# Altium schematic symbol library lib.SchLib: 131 symbols (part 1 of 2)
Pins are listed as number, name and electrical type; pins without a type are passive.

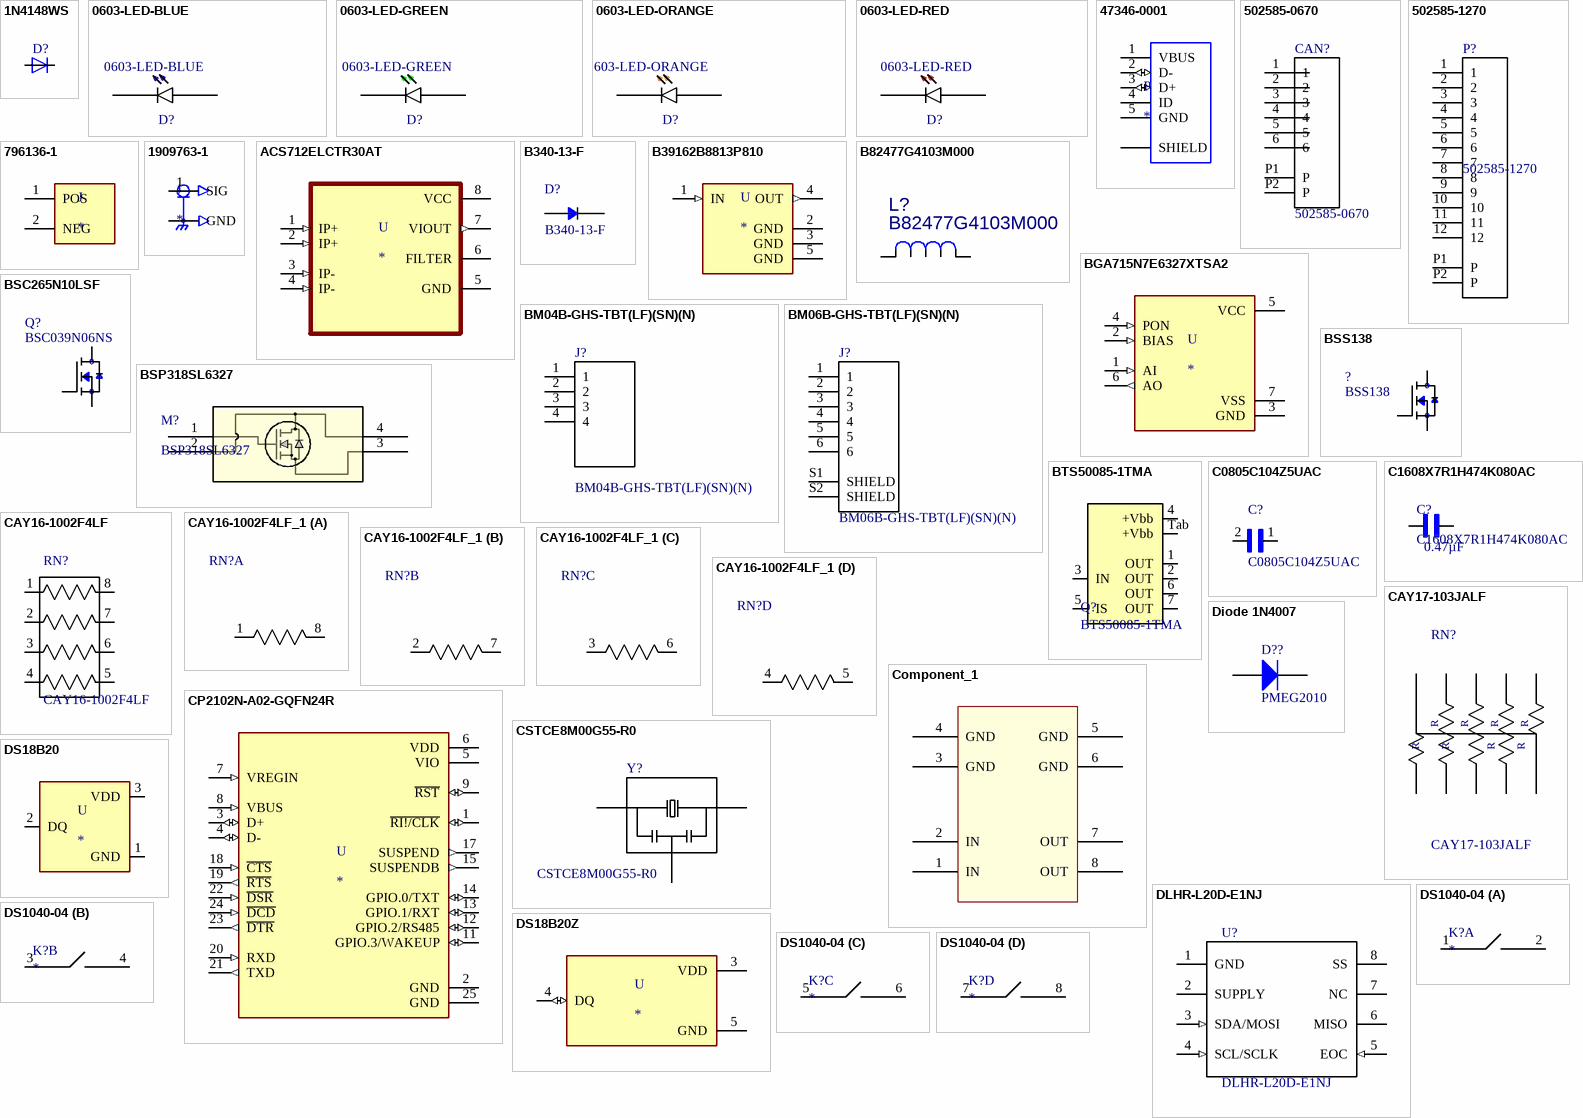
[diagram p0: symbols 1N4148WS to DS1040-04]

## 1N4148WS
designator D?  (value not drawn)
Diode Standard 75V 150mA Surface Mount SOD-323F; MF: ON Semiconductor; MP: 1N4148WS; SnapEDA_Link: https://www.snapeda.com/parts/1N4148WS/ON%20Semiconductor/view-part/9223/?ref=snap; Value: *; Digi-Key_Part_Number: 1N4148WSFSCT-ND; Digi-Key_Purchase_URL: https://www.digikey.com/product-detail/en/on-semiconductor/1N4148WS/1N4148WSFSCT-ND/1873821?utm_source=snapeda&utm_medium=aggregator&utm_campaign=symbol; Package: SOD-323 Fairchild Semiconductor; ChipDip_Link: https://www.chipdip.ru/product/1n4148ws-4; HelpURL: https://static.chipdip.ru/lib/008/DOC003008079.pdf
footprint SOD323 (SOD, 2-Leads, Body 1.25x2.50mm, IPC Medium Density)
pins: 1 A, 2 C

## 0603-LED-BLUE
designator D?
LED IrLED Chip LED 2-Pin SMD T/R; MP: LTST-S270TBKT or  LTST-C194TBKT or LTST-C191TBKT or  SML-D12D1WT86; Package: 0603 Lite-On; SnapEDA_Link: https://www.snapeda.com/parts/LTE-C1906R-14/Lite-On%20Inc./view-part/?ref=snap; Value: *; Type: SMD
footprint *LEDM1608X80_LTE-C1906R-14(Primary)
pins: A, C

## 0603-LED-GREEN
designator D?
Green 571nm LED Indication - Discrete 2V 0603 (1608 Metric); MP: LTST-C191KGKT or SML-D12D1WT86 or LTST-C190KGKT; Type: SMD; Package: 0603 Lite-On; SnapEDA_Link: https://www.snapeda.com/parts/LTST-C190KGKT/Lite-On%20Inc./view-part/?ref=search&t=0603%20LED%20GREEN; Value: *
footprint *LEDM1608X80_LTE-C1906R-14(Primary)
pins: A, C

## 0603-LED-ORANGE
designator D?
Orange 605nm LED Indication - Discrete 2.2V 0603 (1608 Metric); MP: SML-D12D1WT86 or LTST-C194KFKT; Type: SMD; Package: 0603 Lite-On; SnapEDA_Link: https://www.snapeda.com/parts/SML-D12D1WT86/Rohm/view-part/?ref=search&t=0603%20LED%20orange; Value: *
footprint *LEDM1608X80_LTE-C1906R-14(Primary)
pins: A, C

## 0603-LED-RED
designator D?
Red 620nm LED Indication - Discrete 2.2V 0603 (1608 Metric); MP: LTST-C194KRKT or SML-D12U1WT86; Type: SMD; Package: 0603 Lite-On; SnapEDA_Link: https://www.snapeda.com/parts/LTE-C1906R-14/Lite-On%20Inc./view-part/?ref=snap; Value: *
footprint *LEDM1608X80_LTE-C1906R-14(Primary)
pins: A, C

## 47346-0001
designator P
USB - micro B USB 2.0 Receptacle Connector 5 Position Surface Mount, Right Angle; MF: Molex; MP: 47346-0001; Value: *; Availability: Unavailable; SnapEDA_Link: https://www.snapeda.com/parts/47346-0001/Molex/view-part/53503/?ref=snap; Package: None; Price: None; ChipDip_Link: https://www.chipdip.ru/product/molex-47346-0001; HelpURL: https://static.chipdip.ru/lib/002/DOC001002744.pdf
footprint MOLEX_47346-0001
pins: 1 VBUS (power), 2 D- (io), 3 D+ (io), 4 ID, 5 GND (power), SH1 SHIELD, SH2 SHIELD, SH3 SHIELD, SH4 SHIELD, SH5 SHIELD, SH6 SHIELD

## 502585-0670
designator CAN?
1.50mm Pitch, CLIK-Mate PCB Receptacle, Single Row, Surface Mount, Right-Angle, Tin Plating, Positive Lock, 6 Circuits, Natural; MF: Molex; System: Connector; MP: 502585-0670; Package: None; SnapEDA_Link: https://www.snapeda.com/parts/502494-0670/Molex/view-part/?ref=snap; Value: *; Type: SMD
footprint MOLEX_502585-0670
pins: 1, 2, 3, 4, 5, 6, P1 P, P2 P

## 502585-1270
designator P?
1.50mm Pitch, CLIK-Mate PCB Receptacle, Single Row, Surface Mount, Right-Angle, Tin Plating, Positive Lock, 12 Circuits, Natural; MP: 502494-0670; MF: Molex; Availability: Unavailable; Package: None; SnapEDA_Link: https://www.snapeda.com/parts/502494-0670/Molex/view-part/?ref=snap; Price: None; Value: *
footprint MOLEX_5025851270
pins: 1, 2, 3, 4, 5, 6, 7, 8, 9, 10, 11, 12, P1 P, P2 P

## 796136-1
designator J
BATTERY HOLDER; No. of Batteries:1; Terminal Type:Surface Mount; For Use With:CR2032 Batteries; Accessory Type:Battery Holder; Battery Size Code:2032; Number_of_Positions: 2; MF: TE Connectivity; MP: 796136-1; Package: None; Value: *; TE_purchase_URL: https://www.te.com/usa-en/product-796136-1.html?te_bu=Cor&te_type=disp&te_campaign=seda_glo_cor-seda-global-disp-prtnr-fy19-seda-model-bom-cta_sma-317_1&elqCampaignId=32493; EU_RoHS_Compliance: Compliant; SnapEDA_Link: https://www.snapeda.com/parts/796136-1/TE%20Connectivity%20AMP%20Connectors/view-part/761452/?ref=snap; Availability: Unavailable; Price: None; ChipDip_Link: https://www.chipdip.ru/product1/8001790650; HelpURL: https://www.chipdip.ru/product1/8001790650
footprint TE_796136-1
pins: 1 POS, 2 NEG

## 1909763-1
designator J
Conn Coaxial PL 50Ohm Solder ST SMD Gold Over Nickel T/R; MP: 1909763-1; Number_of_Positions: 1; MF: TE Connectivity; Price: None; SnapEDA_Link: https://www.snapeda.com/parts/1909763-1/TE%20Connectivity%20AMP%20Connectors/view-part/473568/?ref=snap; Availability: Unavailable; Value: *; TE_purchase_URL: https://www.te.com/usa-en/product-1909763-1.html?te_bu=Cor&te_type=disp&te_campaign=seda_glo_cor-seda-global-disp-prtnr-fy19-seda-model-bom-cta_sma-317_1&elqCampaignId=32493; Package: None; ChipDip_Link: https://www.chipdip.ru/product1/8001775012; HelpURL: https://static6.arrow.com/aropdfconversion/4c7c0ae0d8af9cba0a94878fe69330a102c56b4b/eng_cd_1909763_b.pdf
footprint TE_1909763-1 (Footprint not found)
pins: 1 SIG, 2 GND, 3 GND

## ACS712ELCTR30AT
designator U
Current Sensor 30A 1 Channel Hall Effect, Open Loop Bidirectional 8-SOIC _0.154, 3.90mm Width_; MF: Allegro MicroSystems LLC; MP: ACS712ELCTR30AT; SnapEDA_Link: https://www.snapeda.com/parts/ACS712ELCTR30AT/Allegro%20MicroSystems%20LLC/view-part/1228165/?ref=snap; Value: *; Price: None; Availability: Unavailable; Package: SOIC-8 Allegro MicroSystems LLC; ChipDip_Link: https://www.chipdip.ru/product/acs712elctr-30a-t; HelpURL: https://static.chipdip.ru/lib/242/DOC000242949.pdf
footprint SOIC127P600X175-8N
pins: 1 IP+ (in), 2 IP+ (in), 3 IP- (in), 4 IP- (in), 5 GND (power), 6 FILTER, 7 VIOUT (out), 8 VCC (power)

## B340-13-F
designator D?
Schottky Diode, 3A, 40V, Smc; MF: Pericom; Package: DO-214AB-214 Pericom; MP: B340-13-F; Availability: Unavailable; SnapEDA_Link: https://www.snapeda.com/parts/B340-13-F/Pericom/view-part/?ref=snap; Price: None; Value: *
footprint *DIO_B340-13-F_B340-13-F(Primary)
pins: A, C

## B39162B8813P810
designator U
Frequency RF SAW Filter _Sound Acoustic Wave_ Bandwidth 5-SMD, No Lead; MF: Qualcomm _RF360; MP: B39162B8813P810; Package: SMD-5 EPCOS; Value: *; Availability: Unavailable; SnapEDA_Link: https://www.snapeda.com/parts/B39162B8813P810/Qualcomm%20%28RF360%20-%20A%20Qualcomm%20%26%20TDK%20Joint%20Venture%29/view-part/301261/?ref=snap; Price: None; ChipDip_Link: https://www.chipdip.ru/product1/8003584693; HelpURL: https://www.chipdip.ru/product1/8003584693
footprint FIL_B39162B9417K610
pins: 1 IN (in), 2 GND (power), 3 GND (power), 4 OUT (out), 5 GND (power)

## B82477G4103M000
designator L?
C: Copyright (C) 2015 Accelerated Designs. All rights reserved; Vendor: Epcos; Built_By: EMA_UL_Team; Manufacturer_Part_Number: B82477G4103M000; Value: B82477G4103M000
footprint IND_EPCOS
pins: 1, 2
1 alternate drawing of the same symbol

## BGA715N7E6327XTSA2
designator U
The BGA715N7 is a front-end low noise amplifier for Global Navigation Satellite Systems (GNSS) from 1550 MHz to 1615 MHz like GPS, GLONASS, Beidou, Galileo and others. The LNA provides 20 dB gain, 0.7 dB noise figure and high linearity performance in the application configuration. Current consumption is as low as 3.3 mA. The BGA715N7 is based upon Infineon Technologies B7HFM Silicon Germanium technology. It operates over a 1.5 V to 3.3 V supply range.; MP: BGA715N7E6327XTSA2; Package: TSNP-7-1 Infineon Technologies; Availability: Unavailable; SnapEDA_Link: https://www.snapeda.com/parts/BGA715N7E6327XTSA2/Infineon%20Technologies/view-part/521435/?ref=snap; DigiKey-Purchase-URL: https://snapeda.com/shop?store=DigiKey&id=521435; Value: *; MF: Infineon Technologies; Price: None; ChipDip_Link: https://www.chipdip.ru/product/bga-715n7-e6327-sige-ln-gnss-rf-amplifier; HelpURL: https://www.chipdip.ru/product/bga-715n7-e6327-sige-ln-gnss-rf-amplifier
footprint AMP_BGA715N7E6327XTSA2
pins: 1 AI (in), 2 BIAS (in), 3 GND (power), 4 PON (in), 5 VCC (power), 6 AO (out), 7 VSS (power)

## BM04B-GHS-TBT(LF)(SN)(N)
designator J?
Conn Shrouded Header HDR 4 POS 1.25mm Solder ST SMD Reel; MF: JST Sales; MP: BM04B-GHS-TBT_LF__SN__N_; SnapEDA_Link: https://www.snapeda.com/parts/BM04B-GHS-TBT%28LF%29%28SN%29%28N%29/JST%20Sales%20America%20Inc./view-part/?ref=snap; Availability: Unavailable; Package: None; Price: None; Value: *
footprint *JST_BM04B-GHS-TBT(LF)(SN)(N)_BM04B-GHS-TBT(LF)(SN)(N)(Primary)
footprint JST_BM04B-GHS-holes
pins: 1, 2, 3, 4

## BM06B-GHS-TBT(LF)(SN)(N)
designator J?
Conn Header Gh Top 6pos 1.25mm; MP: BM06B-GHS-TBT_LF__SN__N_; MF: JST Sales; Package: None; Availability: Unavailable; SnapEDA_Link: https://www.snapeda.com/parts/BM06B-GHS-TBT%28LF%29%28SN%29%28N%29/JST%20Sales%20America%20Inc./view-part/?ref=snap; Price: None; Value: *
footprint *JST_BM06B-GHS-TBT(LF)(SN)(N)_BM06B-GHS-TBT(LF)(SN)(N)(Primary)
pins: 1, 2, 3, 4, 5, 6, S1 SHIELD, S2 SHIELD

## BSC265N10LSF
designator Q?, comment BSC039N06NS
BSC265N10LSF G, MOSFET N-CHANNEL 100V 40A OPTIMOS TDSON8; SnapEDA_Link: https://www.snapeda.com/parts/BSC265N10LSFGATMA1/Samtec/view-part/?ref=search&t=BSC265N10LSF; Value: *; ChipDip_Link: https://www.chipdip.ru/product/bsc265n10lsf-g-mosfet-n-channel-100v-40a; HelpURL: https://static.chipdip.ru/lib/146/DOC004146491.pdf
footprint *TRANS_BSC039N06NS
pins: 1 S, 2 S, 3 S, 4 G, 5 D, 6 D, 7 D, 8 D, 9 D

## BSP318SL6327
designator M?
No Description Available; Vendor: Infineon; Built_By: EMA_Cory; SourceLibrary: Add_to_database_2021-03-11; Designer: EhsanShaghaei; Datasheet: https://www.mouser.com/datasheet/2/196/Infineon-BSP318S-DS-v02_04-en-522823.pdf; Manufacturer_Part_Number: BSP318SL6327; Copyright: Copyright (C) 2018 Accelerated Designs. All rights reserved; RefDes: RefDes; Type: DEV; ChipDip_Link: https://www.chipdip.ru/product0/8001781161
footprint PG-SOT223-4_INF-L
pins: 1, 2, 3, 4

## BSS138
designator ?
N-Channel 50V 220mA _Ta_ 360mW _Ta_ Surface Mount Die; MF: MICROSS/On Semiconductor; SnapEDA_Link: https://www.snapeda.com/parts/BSS138/MICROSS/On%20Semiconductor/view-part/2773844/?ref=snap; MP: BSS138; Availability: Unavailable; Price: None; Package: TO-236-3 Micross; Value: *
footprint *BSS138_BSS138(Primary)
pins: D, G, S

## BTS50085-1TMA
designator Q?
Parameter 1: https://www.infineon.com/dgdl/Infineon-BTS50085-1TMA-DS-v01_00-EN.pdf?fileId=5546d4625a888733015aa435bccd114b
footprint PG-TO263-7-8
pins: 1 OUT, 2 OUT, 3 IN, 4 +Vbb, 5 IS, 6 OUT, 7 OUT, Tab +Vbb

## C0805C104Z5UAC
designator C?
SnapEDA_Link: https://www.snapeda.com/parts/C0805C104Z5UAC/KEMET/view-part/1804770/?ref=snap; Value: *
footprint *CAPC2012X88N
pins: 1, 2

## C1608X7R1H474K080AC
designator C?  value 0.47µF
0.47µF ±10% 50V Ceramic Capacitor X7R 0603 _1608 Metric_; MF: TDK; Price: None; Package: 0603 (1608) TDK; SnapEDA_Link: https://www.snapeda.com/parts/C1608X7R1H474K080AC/TDK/view-part/360155/?ref=snap; Availability: Unavailable; MP: C1608X7R1H474K080AC; ChipDip_Link: https://www.chipdip.ru/product0/8576565346
footprint CAPC1608X90N
pins: 1, 2

## CAY16-1002F4LF
designator RN?
/ 10k Ohm В±1% 62.5mW Power Per Element Isolated Resistor Network/Array В±200ppm/В°C 1206 _3216 Metric_, Convex, Long Side Terminals /; MF: Bourns; MP: CAY16-1002F4LF; SnapEDA_Link: https://www.snapeda.com/parts/CAY16-1002F4LF/Bourns/view-part/289970/?ref=snap; Price: None; Package: 1206 Bourns; Availability: Unavailable; Value: *
footprint *RESCAXE80P320X160-8N
pins: 1, 2, 3, 4, 5, 6, 7, 8

## CAY16-1002F4LF_1
designator RN?, comment CAY16-1002F4LF  (value not drawn)
/ 10k Ohm В±1% 62.5mW Power Per Element Isolated Resistor Network/Array В±200ppm/В°C 1206 _3216 Metric_, Convex, Long Side Terminals /; MF: Bourns; MP: CAY16-1002F4LF; SnapEDA_Link: https://www.snapeda.com/parts/CAY16-1002F4LF/Bourns/view-part/289970/?ref=snap; Price: None; Package: 1206 Bourns; Availability: Unavailable; Value: *
footprint *RESCAXE80P320X160-8N
part A pins: 1, 8
part B pins: 2, 7
part C pins: 3, 6
part D pins: 4, 5

## CAY17-103JALF
designator RN?
/ 10k Ohm В±5% 62.5mW Power Per Element Bussed Resistor Network/Array В±250ppm/В°C 1206 _3216 Metric_, Convex, Long Side Terminals /; MF: Bourns; Package: 1206 Bourns; SnapEDA_Link: https://www.snapeda.com/parts/CAY17-103JALF/Bourns%20-%20J.W.%20Miller/view-part/342691/?ref=snap; Price: None; MP: CAY17-103JALF; Availability: Unavailable; Value: *
footprint *RESCAXS64P320X160X60-10N
pins: 1, 2, 3, 4, 5, 6, 7, 8, 9, 10
text: R

## Component_1
designator *  (value not drawn)
DC/DC
footprint DC/DC
pins: 1 IN, 2 IN, 3 GND, 4 GND, 5 GND, 6 GND, 7 OUT, 8 OUT

## CP2102N-A02-GQFN24R
designator U
USB Bridge, USB to UART USB 2.0 UART Interface 24-QFN _4x4_; MF: Silicon Labs; MP: CP2102N-A02-GQFN24R; Package: WFQFN-24 Silicon Labs; Price: None; Availability: Unavailable; SnapEDA_Link: https://www.snapeda.com/parts/CP2102N-A02-GQFN24R/Silicon%20Labs/view-part/3601234/?ref=snap; Value: *; ChipDip_Link: https://www.chipdip.ru/product/cp2102n-a02-gqfn24; HelpURL: http://www.farnell.com/datasheets/2786351.pdf
footprint QFN50P400X400X80-25N
pins: 1 ~{RI!/CLK} (io), 2 GND (power), 3 D+ (io), 4 D- (io), 5 VIO (power), 6 VDD (power), 7 VREGIN (in), 8 VBUS (in), 9 ~{RST} (io), 11 GPIO.3/WAKEUP (io), 12 GPIO.2/RS485 (io), 13 GPIO.1/RXT (io), 14 GPIO.0/TXT (io), 15 SUSPENDB (out), 17 SUSPEND (out), 18 ~{CTS} (in), 19 ~{RTS} (out), 20 RXD (in), 21 TXD (out), 22 ~{DSR} (in), 23 ~{DTR} (out), 24 ~{DCD} (in), 25 GND (power)

## CSTCE8M00G55-R0
designator Y?
Ceramic Resonator 8MHz ??0.5% _Tol_ ??0.2% _Stability_ 33pF 40Ohm 3-Pin CSMD T/R; MF: Murata; MP: CSTCE8M00G55-R0; Package: SMD-3 Murata; SnapEDA_Link: https://www.snapeda.com/parts/CSTCE8M00G55-R0/Murata%20Electronics%20North%20America/view-part/?ref=snap; Value: *; ChipDip_Link: https://www.chipdip.ru/product1/8001783721; HelpURL: https://www.murata.com/en-eu/api/pdfdownloadapi?cate=&partno=CSTCE8M00G55-R0; Type: SMD
footprint *OSC_CSTCE8M00G55-R0
pins: 1, 2 (power), 3

## Diode 1N4007
designator D??, comment PMEG2010
1 Amp General Purpose Rectifier; Published: 8-Jun-2000; LatestRevisionDate: 17-Jul-2002; LatestRevisionNote: Re-released for DXP Platform.; DatasheetVersion: 1998; PackageVersion: Aug-1999; PackageReference: DO-41; Publisher: Altium Limited; Code_JEDEC: DO-204-AL; ComponentLink1Description: Manufacturer Link; ComponentLink1URL: http://www.fairchildsemi.com/; ComponentLink2Description: Datasheet; ComponentLink2URL: http://www.fairchildsemi.com/ds/1N%2F1N4001.pdf
footprint DIO10.46-5.3x2.8 (Diode, Axial; Body 5.2 x 2.7 mm (LxDia. max), Lead Dia. 0.86 mm (max))
simulation model 1N4007 (DIODE)
signal-integrity model 1N4007
footprint SOD323 (SOD-323/SC-76; 2 Leads; Body 1.7 x 1.3 mm, (LxW))
pins: 1 A, 2 K

## DLHR-L20D-E1NJ
designator U?
SnapEDA_Link: https://www.snapeda.com/parts/DLLR-L10G-E1BD-C-NAV8/Amphenol%20All%20Sensors%20Corporation/view-part/?ref=search&t=DLHR; MP: DLHR-L20D-E1NJ; Availability: Unavailable; Price: None; Package: PowerSOIC-8 Texas Instruments; MF: DLHR-L20D-E1NJ; Value: *; ComponentLink1Description: Datasheet; ComponentLink1URL: https://www.allsensors.com/datasheets/DS-0350_Rev_C.pdf
footprint DSHR
pins: 1 GND (power), 2 SUPPLY (power), 3 SDA/MOSI (in), 4 SCL/SCLK (in), 5 EOC (in), 6 MISO (power), 7 NC (power), 8 SS (power)

## DS18B20
designator U
Temperature Sensor Digital, Local -55Â°C ~ 125Â°C 12 b TO-92-3; MF: Maxim Integrated; MP: DS18B20; Package: TO-92 Maxim Integrated; Value: *; Price: None; Availability: Unavailable; SnapEDA_Link: https://www.snapeda.com/parts/DS18B20/Maxim%20Integrated/view-part/1266091/?ref=snap
footprint TO-92-TO92127P495H2044-3
pins: 1 GND (power), 2 DQ (io), 3 VDD (power)

## DS18B20Z
designator U
Temperature Sensor Digital, Local -55Â°C ~ 125Â°C 12 b 8-SOIC; MP: DS18B20Z+; MF: Maxim Integrated; Availability: Unavailable; SnapEDA_Link: https://www.snapeda.com/parts/DS18B20Z%2B/Maxim%20Integrated/view-part/109391/?ref=snap; Value: *; Package: SOIC-8 Maxim; Price: None
footprint SOIC127P600X175-8N
pins: 3 VDD (power), 4 DQ (io), 5 GND (power)

## DS1040-04
designator K?
DS1040-04RN, DIP переключатель 4pin красный; ComponentLink1Description: Datasheet; ComponentLink1URL: https://static.chipdip.ru/lib/974/DOC000974669.pdf; ComponentLink2Description: Supplyer; ComponentLink2URL: https://www.chipdip.ru/product/ds1040-04rn
footprint DS1040-04
part A pins: 1 I1, 2 O1
part B pins: 3 I1, 4 O1
part C pins: 5 I1, 6 O1
part D pins: 7 I1, 8 O1

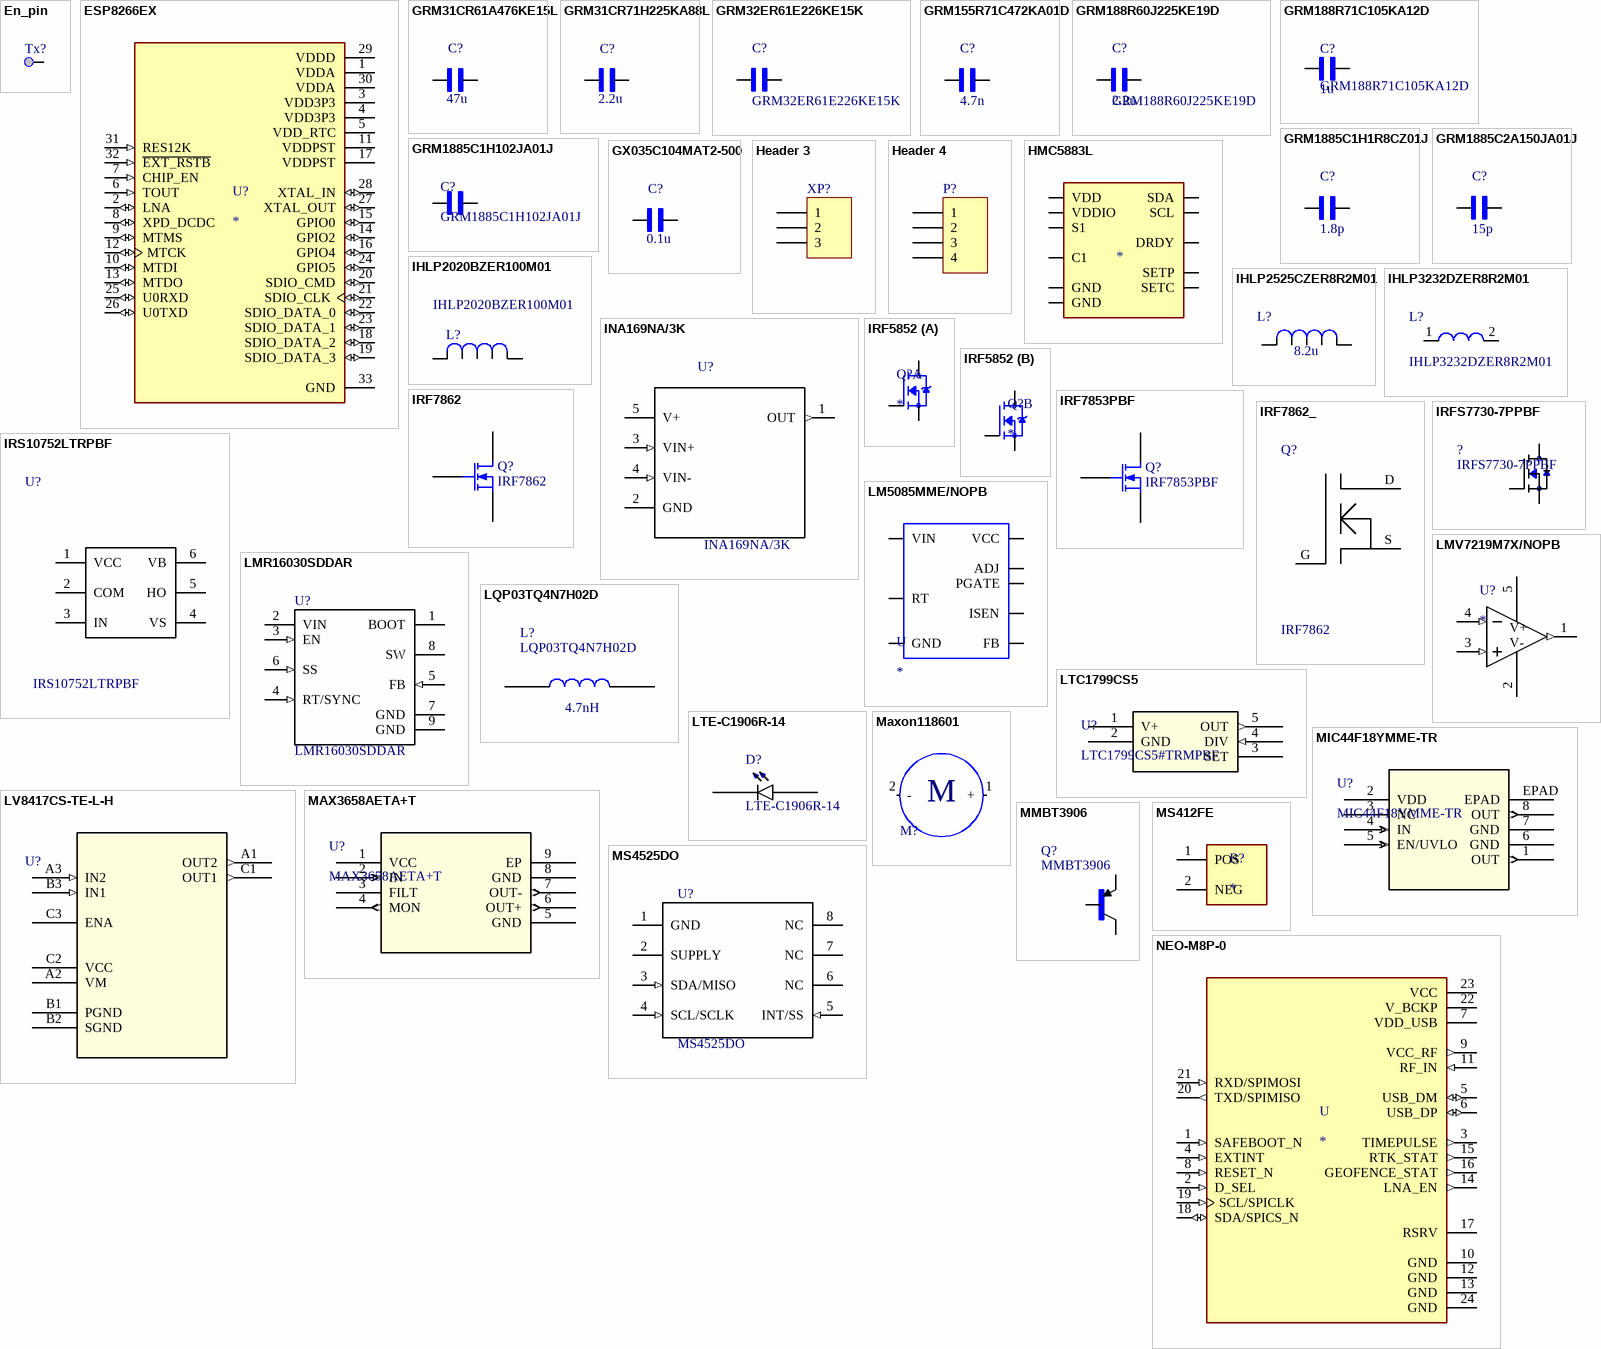
[diagram p1: symbols En_pin to NEO-M8P-0]

## En_pin
designator Tx?  (value not drawn)
footprint En_pin_TP
footprint EN_PIN_SMD (Footprint not found)
footprint EnPinSMD-mali
pins: 1

## ESP8266EX
designator U?
IC RF TxRx + MCU WiFi 802.11b/g/n 2.4GHz 32-VFQFN Exposed Pad; MF: Espressif Systems; MP: ESP8266EX; SnapEDA_Link: https://www.snapeda.com/parts/ESP8266EX/Espressif%20Systems/view-part/555861/?ref=snap; Value: *; Purchase-URL: https://pricing.snapeda.com/search/part/ESP8266EX/?ref=eda; Price: None; Availability: Warning; Package: VFQFN-32 Espressif Systems; Check_prices: https://www.snapeda.com/parts/ESP8266EX/Espressif%20Systems/view-part/555861/?ref=eda
footprint QFN50P500X500X80-33N
pins: 1 VDDA (power), 2 LNA (io), 3 VDD3P3 (power), 4 VDD3P3 (power), 5 VDD_RTC (power), 6 TOUT (in), 7 CHIP_EN (in), 8 XPD_DCDC (io), 9 MTMS (io), 10 MTDI (io), 11 VDDPST (power), 12 MTCK (io), 13 MTDO (io), 14 GPIO2 (io), 15 GPIO0 (io), 16 GPIO4 (io), 17 VDDPST (power), 18 SDIO_DATA_2 (io), 19 SDIO_DATA_3 (io), 20 SDIO_CMD (io), 21 SDIO_CLK (io), 22 SDIO_DATA_0 (io), 23 SDIO_DATA_1 (io), 24 GPIO5 (io), 25 U0RXD (io), 26 U0TXD (io), 27 XTAL_OUT (io), 28 XTAL_IN (io), 29 VDDD (power), 30 VDDA (power), 31 RES12K (in), 32 ~{EXT_RSTB} (in), 33 GND (power)

## GRM31CR61A476KE15L
designator C?  value 47u  (hidden comment: GRM31CR61A476KE15L)
Multilayer Ceramic Capacitor, GRM Series, 47 - F, - 10%, X5R, 10 V, 1206 [3216 Metric]; MF: Murata Electronics; Type: SMD; Package: 1206 Murata Electronics; MP: GRM31CR61A476KE15L; SnapEDA_Link: https://www.snapeda.com/parts/GRM31CR61A476KE15L/Murata%20Electronics%20North%20America/view-part/?ref=snap
footprint *CAPC3216X125N
pins: 1, 2

## GRM31CR71H225KA88L
designator C?  value 2.2u  (hidden comment: GRM31CR71H225KA88L)
1206 2.2 uF 50 V В±10% Tolerance X7R SMT Multilayer Ceramic Capacitor /; MF: Murata Electronics; Type: SMD; Package: 1206 Murata; SnapEDA_Link: https://www.snapeda.com/parts/GRM31CR71H225KA88L/Murata%20Electronics%20North%20America/view-part/?ref=snap; MP: GRM31CR71H225KA88L
footprint *CAP3216X125N
pins: 1, 2

## GRM32ER61E226KE15K
designator C?
Кер.чип.конд. 1210 X5R 22мкФ 25В 10%, GRM32ER61E226KE15K; Value: 22u; SnapEDA_Link: https://www.snapeda.com/parts/GRM32ER61E226KE15K/Murata%20Electronics%20North%20America/view-part/1756515/?ref=snap; ChipDip_Link: https://www.chipdip.ru/product0/9000122658; HelpURL: https://www.chipdip.ru/product0/9000122658
footprint *CAPC3225X270N
pins: 1, 2

## GRM155R71C472KA01D
designator C?  value 4.7n  (hidden comment: GRM155R71C472KA01D)
Кер.чип.конд. 0402 X7R 4.7нФ 16В 10%, GRM155R71C472KA01D; SnapEDA_Link: https://www.snapeda.com/parts/GRM155R71C472KA01D/Murata%20Electronics%20North%20America/view-part/1795691/?ref=snap; ChipDip_Link: https://www.chipdip.ru/product/grm155r71c472ka01d; HelpURL: https://static.chipdip.ru/lib/250/DOC000250694.pdf
footprint *CAPC1005X55N
pins: 1, 2

## GRM188R60J225KE19D
designator C?  value 2.2u
SMD Capacitor X5R(EIA) with Capacitance: 2.2uF Tol. 10%. Rated Voltage: 6.3Vdc; SnapEDA_Link: https://www.snapeda.com/parts/GRM188R60J225KE19D/Murata%20Electronics%20North%20America/view-part/518950/?ref=snap; ChipDip_Link: https://www.chipdip.ru/product/grm188r60j225ke19d; HelpURL: https://www.chipdip.ru/product/grm188r60j225ke19d
footprint *CAPC1608X90N
pins: 1, 2

## GRM188R71C105KA12D
designator C?  value 1u
SMD Capacitor X7R(EIA) with Capacitance: 1.0uF Tol. 10%. Rated Voltage: 16Vdc; MF: Murata Electronics; Pacage Metric: 1608; MP: GRM188R71C105KA12D; SnapEDA_Link: https://www.snapeda.com/parts/GRM188R71C105KA12D/Murata%20Electronics%20North%20America/view-part/228340/?ref=snap; Package: 0603; ChipDip_Link: https://www.chipdip.ru/product/grm188r71c105ka12d; HelpURL: https://static.chipdip.ru/lib/428/DOC005428493.pdf; Type: SMD
footprint CAPC1608X90N
pins: 1, 2

## GRM1885C1H1R8CZ01J
designator C?  value 1.8p  (hidden comment: GRM1885C1H1R8CZ01J)
Кер.ЧИП конд. 1.8пФ NPO 50В 0.25%0603, GRM1885C1H1R8C; SnapEDA_Link: https://www.snapeda.com/parts/GRM1885C1H1R8CZ01J/Murata/view-part/3819068/?ref=snap; ChipDip_Link: https://www.chipdip.ru/product/grm1885c1h1r8c; HelpURL: https://static.chipdip.ru/lib/428/DOC005428493.pdf
footprint *CAPC1608X90N
pins: 1, 2

## GRM1885C1H102JA01J
designator C?
SMD Capacitor C0G_EIA_ with Capacitance: 1000pF Tol. 5%. Rated Voltage: 50Vdc; Value: 1nF; MF: Murata; Price: None; Package: 1608 Murata; SnapEDA_Link: https://www.snapeda.com/parts/GRM1885C1H102JA01J/Murata/view-part/4378805/?ref=snap; Availability: Unavailable; MP: GRM1885C1H102JA01J; ChipDip_Link: https://www.chipdip.ru/product/grm1885c1h102j
footprint CAPC1608X90N
pins: 1, 2

## GRM1885C2A150JA01J
designator C?  value 15p  (hidden comment: GRM1885C2A150JA01J)
SnapEDA_Link: https://www.snapeda.com/parts/GRM1885C2A150JA01J/Murata/view-part/1812122/?ref=snap; ChipDip_Link: https://www.chipdip.ru/product/grm1885c2a150j; HelpURL: https://static.chipdip.ru/lib/428/DOC005428493.pdf
footprint *CAPC1608X90N
pins: 1, 2

## GX035C104MAT2-500
designator C?  value 0.1u  (hidden comment: GX035C104MAT2-500)
Cap Thin Film 0.1uf 50v 0603; MF: AVX; MP: GX035C104MAT2-500 or CL10B104JB8NNNC; Pacage Metric: 1608; Type: SMD; Package: 0603 AVX; SnapEDA_Link: https://www.snapeda.com/parts/GX035C104MAT2-500/AVX/view-part/?ref=snap
footprint *CAPC1608X90
pins: 1, 2

## Header 3
designator XP?
Header, 3-Pin; LatestRevisionDate: 17-Jul-2002; LatestRevisionNote: Re-released for DXP Platform.; Publisher: Altium Limited
footprint HDR Side 3 pin
pins: 1, 2, 3

## Header 4
designator P?
Header, 4-Pin; LatestRevisionDate: 17-Jul-2002; LatestRevisionNote: Re-released for DXP Platform.; Publisher: Altium Limited
signal-integrity model Connector
footprint HDR1X4 (Connector; Header; 4 Position)
pins: 1, 2, 3, 4

## HMC5883L
designator ?
Magnetoresistive Sensor X, Y, Z Axis 16-LCC; MP: HMC5883L-T; MF: Honeywell Aerospace; Value: *; Availability: Unavailable; Price: None; Package: LCC-16 Honeywell; SnapEDA_Link: https://www.snapeda.com/parts/HMC5883L-T/Honeywell%20Aerospace/view-part/449311/?ref=snap
footprint LPCC-16
pins: 1 SCL (io), 2 VDD (io), 4 S1 (io), 8 SETP (io), 9 GND (io), 10 C1 (io), 11 GND (io), 12 SETC (io), 13 VDDIO (io), 15 DRDY (io), 16 SDA (io)

## IHLP2020BZER100M01
designator L?
10µH Shielded Molded Inductor 2.3A 199mOhm Max Nonstandard; MF: Vishay Dale; Type: SMD; SnapEDA_Link: https://www.snapeda.com/parts/IHLP2020BZER100M01/Vishay%20Dale/view-part/44808/?ref=snap; MP: IHLP2020BZER100M01; Value: *; Package: Nonstandard Vishay; HelpURL: http://www.vishay.com/docs/34253/ihlp-2020bz-01.pdf; ChipDip_Link: https://www.chipdip.ru/product/ihlp2020bzer100m11-inductor-ihlp-smd-2020-10
footprint IHLP
pins: 1, 2

## IHLP2525CZER8R2M01
designator L?  value 8.2u  (hidden comment: IHLP2525CZER8R2M01)
IHLP2525CZER8R2M01, 8.2uH 4A 20% Low Profile High Current SMT Inductor, Индуктивность; MF: Vishay Dale; Price: None; Availability: Unavailable; SnapEDA_Link: https://www.snapeda.com/parts/IHLP2525CZER100M01/Vishay%20Dale/view-part/?ref=snap; MP: IHLP2525CZER8R2M01; Package: Nonstandard Vishay; HelpURL: http://www.farnell.com/datasheets/2045677.pdf; ChipDip_Link: https://www.chipdip.ru/product1/8001990139
footprint *IND_IHLP_2525_CZ
pins: 1, 2

## IHLP3232DZER8R2M01
designator L?
Силовой Индуктор (SMD), 8.2 мкГн, 5.5 А, Экранированный, 10 А, Серия IHLP-3232DZ-01; Value: 8.2 uH; SnapEDA_Link: https://www.snapeda.com/parts/IHLP3232DZER3R3M51/Vishay%20Dale/view-part/1642474/?ref=snap; ChipDip_Link: https://www.chipdip.ru/product/ihlp3232dzer8r2m01; HelpURL: http://www.farnell.com/datasheets/2046006.pdf
footprint *INDM8681X400N
pins: 1, 2

## INA169NA/3K
designator U?
Current Monitor Regulator High-Side SOT-23-5; MF: Texas Instruments; Package: SOT-23-5 Texas Instruments; Availability: Unavailable; SnapEDA_Link: https://www.snapeda.com/parts/INA169NA/3K/Texas%20Instruments/view-part/449193/?ref=snap; MP: INA169NA/3K; Price: None; Value: *
footprint *SOT95P280X145-5N
pins: 1 OUT (out), 2 GND, 3 VIN+ (in), 4 VIN- (in), 5 V+ (power)

## IRF5852
designator Q?
Mosfet Array 2 N-Channel _Dual_ 20V 2.7A 960mW Surface Mount 6-TSOP; MP: IRF5852; MF: Infineon; Price: None; Availability: Unavailable; Value: *; SnapEDA_Link: https://www.snapeda.com/parts/IRF5852/Infineon%20Technologies/view-part/593138/?ref=snap; Package: TSOP-6 International Rectifier; ChipDip_Link: https://www.chipdip.ru/product/irf5852trpbf; HelpURL: https://static.chipdip.ru/lib/300/DOC000300076.pdf
footprint SOT23-6
part A pins: 1 G, 5 S, 6 D
part B pins: 2 D, 3 G, 4 S

## IRF7853PBF
designator Q?
IRF7853PBF, Транзистор, N-канал 100В 8.3А [SO-8]; Published: 8-Jun-2000; LatestRevisionDate: 17-Jul-2002; LatestRevisionNote: Re-released for DXP Platform.; PackageVersion: 1995/1996; PackageReference: E3; Publisher: Altium Limited; PackageDescription: TO, Flat Index; 3 In-Line, Axial Leads; Body Dia. 4.6mm; Lead Dia. 0.5 mm (max); ChipDip_Link: https://www.chipdip.ru/product/irf7853pbf; HelpURL: https://static.chipdip.ru/lib/300/DOC000300486.pdf
footprint *SO-08
simulation model NMOS (MOSFET-N)
pins: D, G, S

## IRF7862
designator Q?
N-Channel MOSFET; Published: 8-Jun-2000; LatestRevisionDate: 17-Jul-2002; LatestRevisionNote: Re-released for DXP Platform.; PackageVersion: 1995/1996; PackageReference: E3; Publisher: Altium Limited; PackageDescription: TO, Flat Index; 3 In-Line, Axial Leads; Body Dia. 4.6mm; Lead Dia. 0.5 mm (max)
footprint *SO-08
simulation model NMOS (MOSFET-N)
pins: D, G, S

## IRF7862_
designator Q?, comment IRF7862
MF: Infineon Technologies; SnapEDA_Link: https://www.snapeda.com/parts/IRF7862/Infineon%20Technologies/view-part/?ref=snap; Price: None; MP: IRF7862; Package: SO-8 Infineon Technologies; Availability: Unavailable; Value: *
footprint *SO-08
pins: D D1 (power), G (power), S S1 (power)

## IRFS7730-7PPBF
designator ?
IRFS7730-7PPBF, Транзистор, StrongIRFET, N-канал 75В 240А 2мОм [D2PAK-7]; SnapEDA_Link: https://www.snapeda.com/parts/BSS138/MICROSS/On%20Semiconductor/view-part/2773844/?ref=snap; MP: IRFS7730-7PPBF; Availability: Unavailable; Price: 3; MF: IRFS7730-7PPBF; Package: d2pak-7; Value: *; HelpURL: https://www.chipdip.ru/product/irfs7730-7ppbf
footprint *DPAK127P1524X483-8N
pins: D, G, S

## IRS10752LTRPBF
designator U?
Floating gate driver designed for bootstrap operation | Fully operational to +100 V | Fully operational to +600 V (IRS25752L) Fully operational to +200 V (IRS20752L) option available | Excellent dv/dt immunity | Excellent negative VS transient immunity | Wide VCC range | U VLO on low-side and high-side | Schmitt-trigger input with internal pull-down | Output in phase with input; MF: infineon; Availability: Unavailable; Package: SOT-23-6; Price: None; SnapEDA_Link: https://www.snapeda.com/parts/IRS10752LTRPBF/Infineon%20Technologies/view-part/?ref=search&t=IRS10752; MP: IRS10752LTRPBF; Value: *; HelpURL: https://static.chipdip.ru/lib/142/DOC001142060.pdf; ChipDip_Link: https://www.chipdip.ru/product/irs10752ltrpbf
footprint *SOT95P275X110-6N
pins: 1 VCC (power), 2 COM, 3 IN (power), 4 VS (power), 5 HO, 6 VB (power)

## LM5085MME/NOPB
designator U
4.5-75V Wide Vin, Constant On-Time Non-Synchronous PFET Buck Controller 8-VSSOP -40 to 125; MF: Texas Instruments; MP: LM5085MME/NOPB; Package: MSOP-8 Texas Instruments; Value: *; Price: None; Availability: Unavailable; SnapEDA_Link: https://www.snapeda.com/parts/LM5085MME/NOPB/Texas%20Instruments/view-part/29752/?ref=snap
footprint VSSOP8
pins: P$1 ADJ (io), P$2 RT (io), P$3 FB (io), P$4 GND (io), P$5 ISEN (io), P$6 PGATE (io), P$7 VCC (io), P$8 VIN (io)

## LMR16030SDDAR
designator U?
LMR16030SDDAR, Conv DC-DC 4.3V to 60V Step Down Single-Out 1V to 50V 3A Automotive 8-Pin HSOP EP T/R; MF: Texas Instruments; SnapEDA_Link: https://www.snapeda.com/parts/TPS54560DDA/Texas%20Instruments/view-part/?ref=snap; MP: LMR16030SDDAR; Package: PowerSOIC-8 Texas Instruments; Value: *; Type: SMD; ChipDip_Link: https://www.chipdip.ru/product1/8003448566; HelpURL: https://www.ti.com/lit/ds/symlink/lmr16030.pdf
footprint *SOIC127P600X170-9N - duplicate
pins: 1 BOOT (power), 2 VIN (power), 3 EN (in), 4 RT/SYNC (in), 5 FB (in), 6 SS (in), 7 GND (power), 8 SW (power), 9 GND (power)

## LMV7219M7X/NOPB
designator U?
PartNumber: LMV7219M7; Manufacturer: NationalSemiconductor; Characteristics: LMV7219M77nsec27Vto5VcomparatorwithRail-to-RailOutput; CompType: ComparatorIC; TaMin_C: -400; TaMax_C: 850; ComponentLink1DescBC: LMV7219Datasheet; ComponentLink2DescA4: LMV7219WebPage; ComponentLink3DescAC: MAA05APackageWebPage; Designer: EhsanShaghaei; Copyright: Copyright (C) 2018 Accelerated Designs. All rights reserved; SymbolVersion: 2008-07-09; PackageDescription: 5LeadSC-70; PackageReference: MAA05A_L; RoHS: O; ComponentLink1URL: http//wwwnationalcom/ds/LM/LMV7219pdf; ComponentLink2URL: http//wwwnationalcom/pf/LM/LMV7219html; ComponentLink3URL: http//wwwnationalcom/packaging/folders/maa05ahtml; Version: B1608; LatestRevisionDate: 2009-03-16; LatestRevisionNote: MassUpdate; Publisher: NationalSemiconductor; Published: 2009-03-16; ChipDip_Link: https://www.chipdip.ru/product0/8005529462; ComponentLink1Description: New link; ComponentLink1URL: *
footprint SOT-5_S_LIT
pins: 1 OUT (out), 2 V- (power), 3 IN+ (in), 4 IN- (in), 5 V+ (power)

## LQP03TQ4N7H02D
designator L?  value 4.7nH
SnapEDA_Link: https://www.snapeda.com/parts/LQP03TQ4N7H02D/Murata/view-part/1507840/?ref=snap; ChipDip_Link: https://www.chipdip.ru/product/lqp03tq4n7h02d; HelpURL: http://www.farnell.com/datasheets/2616640.pdf
footprint *IND_LQP03TQ4N7H02D
pins: 1, 2

## LTC1799CS5
designator U?, comment LTC1799CS5#TRMPBF
Vendor: Linear Technology; Built_By: EMA_UL_Team; SourceLibrary: LinearTech_2016_03_08; Manufacturer_Part_Number: LTC1799CS5#TRMPBF; Copyright: Copyright (C) 2018 Accelerated Designs. All rights reserved; RefDes: RefDes; Type: DEV; ComponentLink1Description: ChipDip_Link; ComponentLink1URL: https://www.chipdip.ru/product1/8002977151; ComponentLink2Description: Designer; ComponentLink2URL: Ehsan Shaghaei
footprint SOT-5_S_LIT
pins: 1 V+ (power), 2 GND (power), 3 SET, 4 DIV (in), 5 OUT (out)

## LTE-C1906R-14
designator D?
LED IrLED Chip LED 2-Pin SMD T/R; MF: Lite-On Inc.; Package: 0603 Lite-On; Availability: Unavailable; MP: LTE-C1906R-14; SnapEDA_Link: https://www.snapeda.com/parts/LTE-C1906R-14/Lite-On%20Inc./view-part/?ref=snap; Price: None; Value: *
footprint *LEDM1608X80_LTE-C1906R-14(Primary)
pins: A, C

## LV8417CS-TE-L-H
designator U?
1-channel H bridge motor driver; Manufacturer_Part_Number: LV8417CS-TE-L-H; SourceLibrary: ONSemi_2017-12-12_3; Vendor: ON Semiconductor; Designer: EhsanShaghaei; Copyright: Copyright (C) 2016 Accelerated Designs. All rights reserved; Type: DEV
footprint LV8417CS
pins: A1 OUT2 (out), A2 VM (power), A3 IN2 (in), B1 PGND (power), B2 SGND (power), B3 IN1 (in), C1 OUT1 (out), C2 VCC (power), C3 ENA

## MAX3658AETA+T
designator U?
Vendor: Maxim Integrated Products; Built_By: EMA_UL_Team; SourceLibrary: Maxim_2014-06-20; Designer: Ehsan Shaghaei; Manufacturer_Part_Number: MAX3658AETA+T; Revision: 1; Copyright: Copyright (C) 2018 Accelerated Designs. All rights reserved; RefDes: RefDes; Type: DEV; ChipDip_Link: https://www.chipdip.ru/product/max3658aeta-t
footprint 21-0137I_T833-3_MXM
pins: 1 VCC (power), 2 IN (in), 3 FILT, 4 MON (out), 5 GND (power), 6 OUT+ (out), 7 OUT- (out), 8 GND (power), 9 EP (power)

## Maxon118601
designator M?, comment 3Watt DC motor  (value not drawn)
Designer: Ehsan Shaghaei
footprint Maxon118601
pins: 1 + (power), 2 - (power)
text: M

## MIC44F18YMME-TR
designator U?
No Description Available; Vendor: Microchip; Built_By: EMA_Molly; SourceLibrary: Microchip_2019-09-03; Designer: Ehsan Shaghaei; Manufacturer_Part_Number: MIC44F18YMME-TR; Copyright: Copyright (C) 2018 Accelerated Designs. All rights reserved; RefDes: RefDes; Type: DEV; ChipDip_Link: https://www.chipdip.ru/product/mic44f18ymme
footprint MSOP-8_MME_MCH
pins: 1 OUT (out), 2 VDD (power), 3 NC, 4 IN (in), 5 EN/UVLO (in), 6 GND (power), 7 GND (power), 8 OUT (out), EPAD

## MMBT3906
designator Q?
MMBT3906 Series 40 V 0.2 A 350 mW PNP General Purpose Amplifier - SOT-23; MF: STMicroelectronics; Price: None; Availability: Unavailable; MP: MMBT3906; Package: SOT-23 ON Semiconductor; SnapEDA_Link: https://www.snapeda.com/parts/MMBT3906/STMicroelectronics/view-part/?ref=snap; Value: *
footprint *SOT23-3
pins: 1 B, 2 E, 3 C

## MS412FE
designator B?
BATTERY; Number_of_Positions: 2; MF: TE Connectivity; Package: None; Value: *; EU_RoHS_Compliance: Compliant; Availability: Unavailable; Price: None; ChipDip_Link: https://aliexpress.ru/item/33052640858.html; HelpURL: https://www.sii.co.jp/en/me/datasheets/ms-rechargeable/ms412fe-5/
footprint MS412FE
pins: 1 POS, 2 NEG

## MS4525DO
designator U?
SnapEDA_Link: https://www.snapeda.com/parts/4525-DS5A001DP/TE%20Connectivity%20Measurement%20Specialties/view-part/?ref=search&t=MS4525; MP: MS4525DO; Availability: Unavailable; Price: None; Package: PowerSOIC-8 Texas Instruments; MF: MS4525DO; Value: *; ComponentLink1Description: Datasheet; ComponentLink1URL: https://www.te.com/commerce/DocumentDelivery/DDEController?Action=showdoc&DocId=Data+Sheet%7FMS4525DO%7FB2%7Fpdf%7FEnglish%7FENG_DS_MS4525DO_B2.pdf%7FCAT-BLPS0002; ComponentLink2Description: Supply; ComponentLink2URL: https://www.chipdip.ru/product1/8002062227
footprint *TE_4525DO-DS5AI001DP
pins: 1 GND (power), 2 SUPPLY (power), 3 SDA/MISO (in), 4 SCL/SCLK (in), 5 INT/SS (in), 6 NC (power), 7 NC (power), 8 NC (power)

## NEO-M8P-0
designator U
NEO-M8P RF Receiver BeiDou, GLONASS, GNSS, GPS 1.575GHz -160dBm; MP: NEO-M8P-0; MF: U-Blox America; SnapEDA_Link: https://www.snapeda.com/parts/NEO-M8P-0/U-Blox%20America%20Inc./view-part/562093/?ref=snap; Value: *; Package: SMD-24 u-blox; Price: None; Availability: Unavailable; HelpURL: https://www.u-blox.com/sites/default/files/NEO-M8P_DataSheet_%28UBX-15016656%29.pdf; ChipDip_Link: https://www.chipdip.ru/product1/8001778197
footprint MODULE_NEO-M8P-0
pins: 1 SAFEBOOT_N (in), 2 D_SEL (in), 3 TIMEPULSE (out), 4 EXTINT (in), 5 USB_DM (io), 6 USB_DP (io), 7 VDD_USB (power), 8 RESET_N (in), 9 VCC_RF (out), 10 GND (power), 11 RF_IN (in), 12 GND (power), 13 GND (power), 14 LNA_EN (out), 15 RTK_STAT (out), 16 GEOFENCE_STAT (out), 17 RSRV, 18 SDA/SPICS_N (io), 19 SCL/SPICLK (in), 20 TXD/SPIMISO (out), 21 RXD/SPIMOSI (in), 22 V_BCKP (power), 23 VCC (power), 24 GND (power)

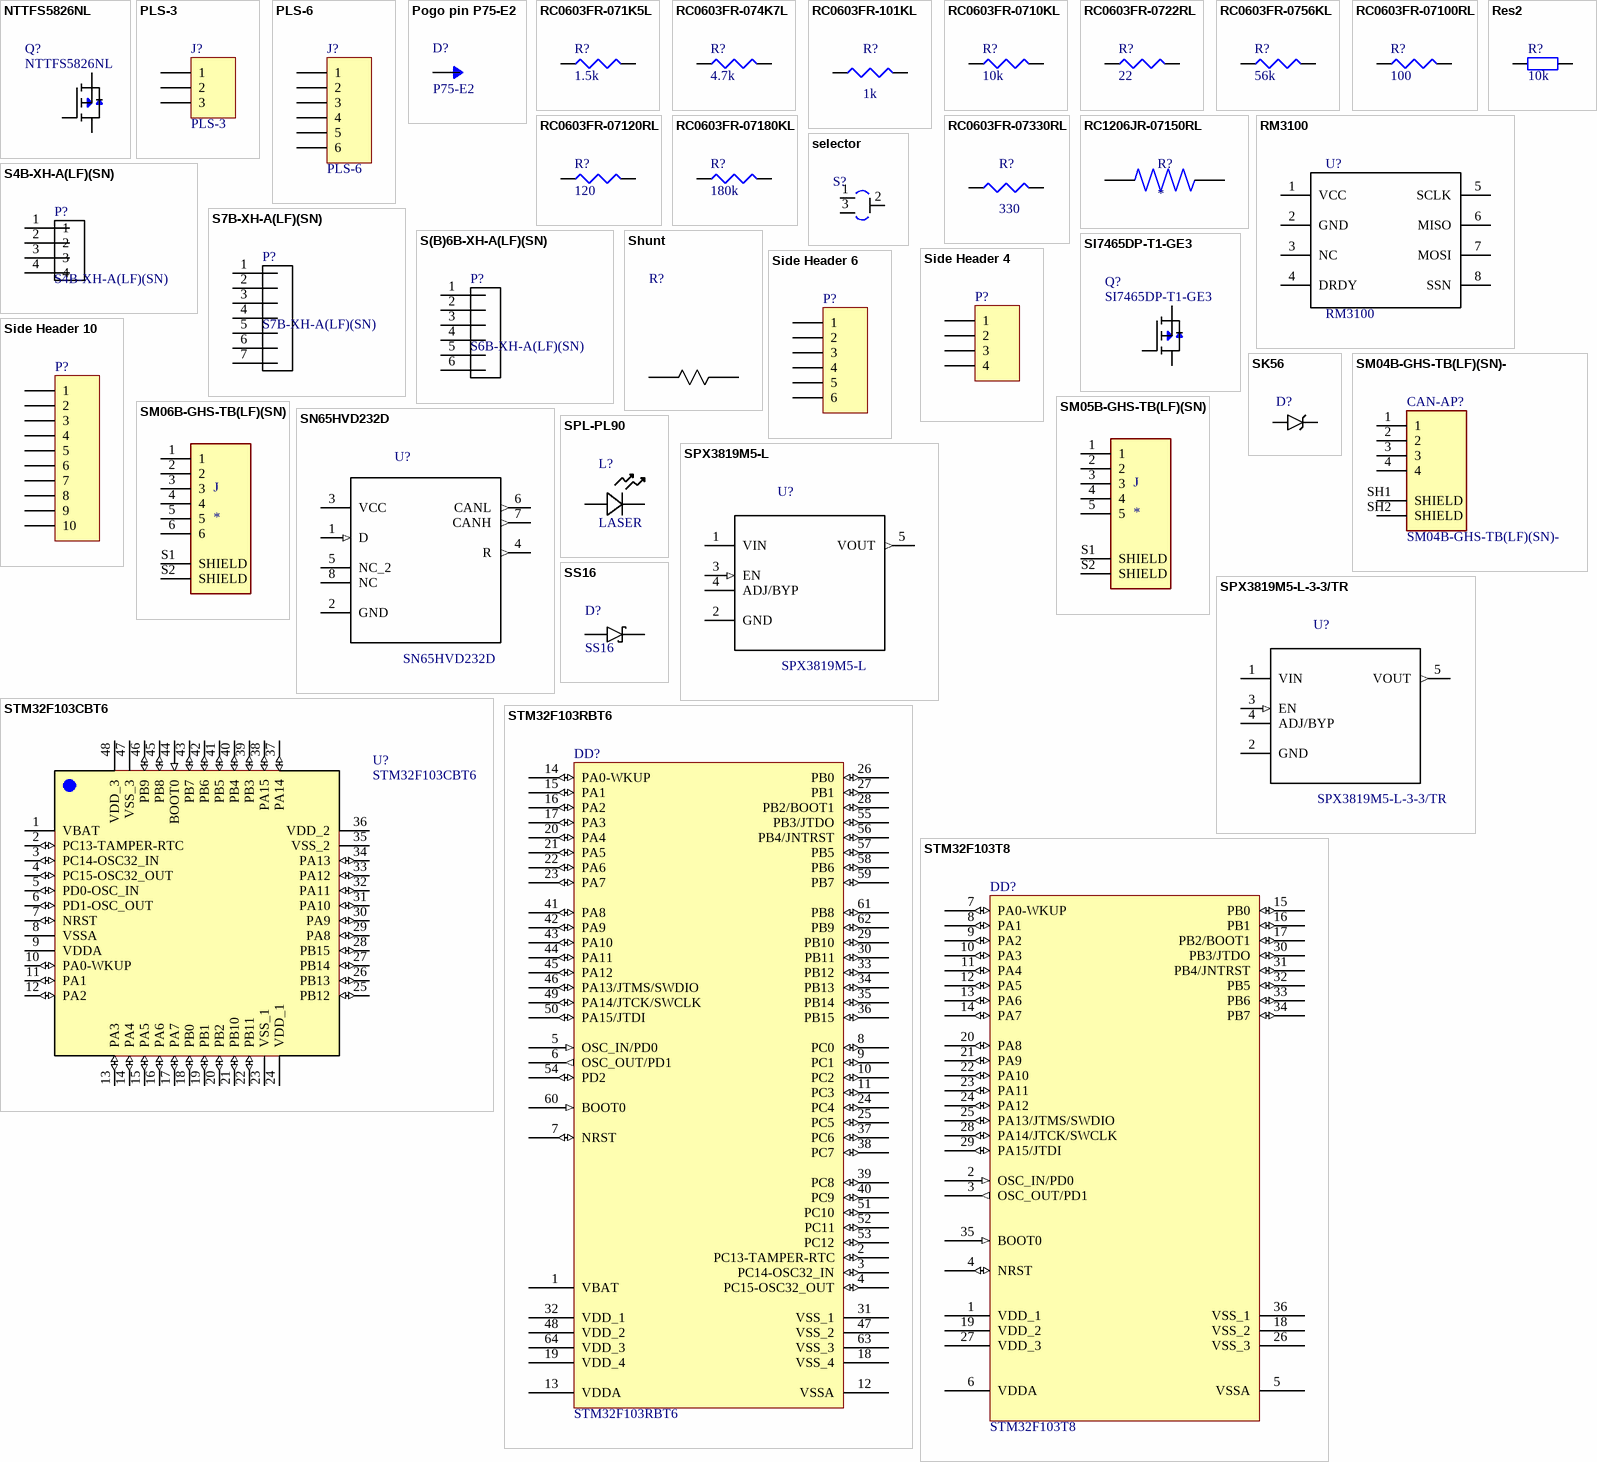
[diagram p2: symbols NTTFS5826NL to STM32F103T8]

## NTTFS5826NL
designator Q?
NTTFS5826NLTAG, MOSFET N-CHANNEL 60V 20A 24MOHM WDFN8; SnapEDA_Link: https://www.snapeda.com/parts/NVTFS5124PLTAG/ON%20Semiconductor/view-part/?ref=search&t=NVTFS5124PLTAG; Value: *; ChipDip_Link: https://www.chipdip.ru/product/nttfs5826nltag-mosfet-n-channel-60v-20a; HelpURL: http://www.farnell.com/datasheets/2028673.pdf
footprint *TRANS_NVTFS015N04CTAG
pins: D, G, S

## PLS-3
designator J?
Header, 3-Pin; System: Connector; MF: Connfly electronic (Zhenqin); MP: PLS-3 (DS1021-1x3); Type: SMD; ChipDip_Link: https://www.chipdip.ru/product/pls-3; HelpURL: https://static.chipdip.ru/lib/227/DOC000227157.pdf
footprint PCBComponent_1
footprint HDR Side 3 pin
pins: 1, 2, 3

## PLS-6
designator J?
PLS-6 (DS1021-1x6), Вилка штыревая 2.54мм 1x6 прямая тип1; Instructions: DNP; ChipDip_Link: https://www.chipdip.ru/product/pls-6; MP: PLS-6; Type: SMD
signal-integrity model Connector
footprint HDR Side 6 pin
footprint 6pin 1.5pitch
pins: 1, 2, 3, 4, 5, 6

## Pogo pin P75-E2
designator D?, comment P75-E2
Pogo pin P75-E2
footprint P75-E2
pins: 1

## RC0603FR-071K5L
designator R?  value 1.5k  (hidden comment: RC0603FR-071K5L)
1.5 kOhms ±1% 0.1W, 1/10W Chip Resistor 0603 (1608 Metric) Thick Film; MF: Yageo or NXP; Pacage Metric: 1608; MP: RC0603FR-071K5L; Package: R0603; SnapEDA_Link: https://www.snapeda.com/parts/RC0603FR-071K5L/Yageo/view-part/?ref=search&t=RC0603FR-07%201k; Type: SMD
footprint J1-0603 (Chip Resistor, Body 1.6x0.8mm, IPC High Density)
footprint 14-1210 (Chip Resistor, Body 3.2x2.5mm, IPC High Density)
footprint 12Z-2010 (Chip Resistor, Body 5.0x2.5mm, IPC High Density)
footprint RESC6332 (Chip Resistor, Body 6.3x3.2mm, IPC High Density)
simulation model RESISTOR (Resistor)
signal-integrity model Res
pins: 1, 2

## RC0603FR-074K7L
designator R?  value 4.7k  (hidden comment: RC0603FR-074K7L)
4.7 kOhms ±1% 0.1W, 1/10W Chip Resistor 0603 (1608 Metric) Thick Film; Pacage Metric: 1608; MF: Yageo or NXP; ChipDip_Link: https://www.chipdip.ru/product0/9000079736; HelpURL: https://www.chipdip.ru/product0/9000079736; Package: R0603; Type: SMD; MP: RC0603FR-074K7L; SnapEDA_Link: https://www.snapeda.com/parts/RC0603FR-074K7L/Yageo/view-part/?ref=dk&t=RC0603FR-074K7L&con_ref=None
footprint J1-0603 (Chip Resistor, Body 1.6x0.8mm, IPC High Density)
footprint 14-1210 (Chip Resistor, Body 3.2x2.5mm, IPC High Density)
footprint 12Z-2010 (Chip Resistor, Body 5.0x2.5mm, IPC High Density)
footprint RESC6332 (Chip Resistor, Body 6.3x3.2mm, IPC High Density)
simulation model RESISTOR (Resistor)
signal-integrity model Res
pins: 1, 2

## RC0603FR-101KL
designator R?  value 1k  (hidden comment: RC0603FR-101KL)
1 kOhms ±1% 0.1W, 1/10W Chip Resistor 0603 (1608 Metric) Moisture Resistant Thick Film; MF: Yageo or NXP; Pacage Metric: 1608; MP: RC0603FR-101KL; Package: R0603; SnapEDA_Link: https://www.snapeda.com/parts/RC0603FR-101KL/Yageo/view-part/?ref=search&t=RC0603FR-07%201k; Type: SMD
footprint J1-0603 (Chip Resistor, Body 1.6x0.8mm, IPC High Density)
footprint 14-1210 (Chip Resistor, Body 3.2x2.5mm, IPC High Density)
footprint 12Z-2010 (Chip Resistor, Body 5.0x2.5mm, IPC High Density)
footprint RESC6332 (Chip Resistor, Body 6.3x3.2mm, IPC High Density)
simulation model RESISTOR (Resistor)
signal-integrity model Res
pins: 1, 2

## RC0603FR-0710KL
designator R?  value 10k  (hidden comment: RC0603FR-0710KL)
10 kOhms 1 0.1 W 1 10 W Chip Resistor 0603 1608 Metric Thick Film; Pacage Metric: 1608; MF: Yageo or NXP; MP: 10K 1% 0603; ChipDip_Link: https://www.chipdip.ru/product0/9000079736; HelpURL: https://www.chipdip.ru/product0/9000079736; Package: R0603; Type: SMD; SnapEDA_Link: https://www.snapeda.com/parts/RC0603FR-0710KL/Yageo/view-part/?ref=dk&t=RC0603FR-0710KL&con_ref=None
footprint J1-0603 (Chip Resistor, Body 1.6x0.8mm, IPC High Density)
footprint 14-1210 (Chip Resistor, Body 3.2x2.5mm, IPC High Density)
footprint 12Z-2010 (Chip Resistor, Body 5.0x2.5mm, IPC High Density)
footprint RESC6332 (Chip Resistor, Body 6.3x3.2mm, IPC High Density)
simulation model RESISTOR (Resistor)
signal-integrity model Res
pins: 1, 2

## RC0603FR-0722RL
designator R?  value 22  (hidden comment: RC0603FR-0722RL)
22 Ohms ±1% 0.1W, 1/10W Chip Resistor 0603 (1608 Metric) Moisture Resistant Thick Film; MF: Yageo or NXP; Pacage Metric: 1608; MP: RC0603FR-0722RL; Package: R0603; SnapEDA_Link: https://www.snapeda.com/parts/RC0603FR-0722RL/Mepco%20Philips/view-part/?ref=search&t=RC0603FR-0722RL; Type: SMD
footprint J1-0603 (Chip Resistor, Body 1.6x0.8mm, IPC High Density)
footprint 14-1210 (Chip Resistor, Body 3.2x2.5mm, IPC High Density)
footprint 12Z-2010 (Chip Resistor, Body 5.0x2.5mm, IPC High Density)
footprint RESC6332 (Chip Resistor, Body 6.3x3.2mm, IPC High Density)
simulation model RESISTOR (Resistor)
signal-integrity model Res
pins: 1, 2

## RC0603FR-0756KL
designator R?  value 56k  (hidden comment: RC0603FR-0756KL)
56 kOhms ±1% 0.1W, 1/10W Chip Resistor 0603 (1608 Metric) Moisture Resistant Thick Film; Pacage Metric: 1608; MF: Yageo or NXP; ChipDip_Link: https://www.chipdip.ru/product0/9000079754; HelpURL: https://www.chipdip.ru/product0/9000079754; Package: R0603; Type: SMD; MP: RC0603FR-0756KL; SnapEDA_Link: https://www.snapeda.com/parts/RC0603FR-0756KL/Yageo/view-part/?ref=search&t=RC0603FR-0756KL
footprint J1-0603 (Chip Resistor, Body 1.6x0.8mm, IPC High Density)
footprint 14-1210 (Chip Resistor, Body 3.2x2.5mm, IPC High Density)
footprint 12Z-2010 (Chip Resistor, Body 5.0x2.5mm, IPC High Density)
footprint RESC6332 (Chip Resistor, Body 6.3x3.2mm, IPC High Density)
simulation model RESISTOR (Resistor)
signal-integrity model Res
pins: 1, 2

## RC0603FR-07100RL
designator R?  value 100  (hidden comment: RC0603FR-07100RL)
100 Ohms ±1% 0.1W, 1/10W Chip Resistor 0603 (1608 Metric) Thick Film; MF: Yageo or NXP; Pacage Metric: 1608; MP: RC0603FR-07100RL; Package: R0603; SnapEDA_Link: https://www.snapeda.com/parts/RC0603FR-07100RL/Yageo/view-part/?ref=search&t=RC0603FR-07100RL; Type: SMD
footprint J1-0603 (Chip Resistor, Body 1.6x0.8mm, IPC High Density)
footprint 14-1210 (Chip Resistor, Body 3.2x2.5mm, IPC High Density)
footprint 12Z-2010 (Chip Resistor, Body 5.0x2.5mm, IPC High Density)
footprint RESC6332 (Chip Resistor, Body 6.3x3.2mm, IPC High Density)
simulation model RESISTOR (Resistor)
signal-integrity model Res
pins: 1, 2

## RC0603FR-07120RL
designator R?  value 120  (hidden comment: RC0603FR-07120RL)
120 Ohms 1 0.1 W 1 10 W Chip Resistor 0603 1608 Metric Thick Film; Pacage Metric: 1608; MF: Yageo or NXP; ChipDip_Link: https://www.chipdip.ru/product0/9000079618; HelpURL: https://www.chipdip.ru/product0/9000079618; Package: R0603; Type: SMD; MP: RC0603FR-07120RL; SnapEDA_Link: https://www.snapeda.com/parts/RC0603FR-07120RL/Yageo/view-part/?ref=search&t=RC0603FR-07120RL
footprint J1-0603 (Chip Resistor, Body 1.6x0.8mm, IPC High Density)
footprint 14-1210 (Chip Resistor, Body 3.2x2.5mm, IPC High Density)
footprint 12Z-2010 (Chip Resistor, Body 5.0x2.5mm, IPC High Density)
footprint RESC6332 (Chip Resistor, Body 6.3x3.2mm, IPC High Density)
simulation model RESISTOR (Resistor)
signal-integrity model Res
pins: 1, 2

## RC0603FR-07180KL
designator R?  value 180k  (hidden comment: RC0603FR-07180KL)
180 kOhms ±1% 0.1W, 1/10W Chip Resistor 0603 (1608 Metric) Moisture Resistant Thick Film; Pacage Metric: 1608; MF: Yageo or NXP; Package: R0603; Type: SMD; ChipDip_Link: https://www.chipdip.ru/product0/9000079766; HelpURL: https://static.chipdip.ru/lib/788/DOC004788200.pdf; MP: RC0603FR-07180KL; SnapEDA_Link: https://www.snapeda.com/parts/RC0603FR-07180KL/Yageo/view-part/?ref=search&t=RC0603FR-07180KL
footprint J1-0603 (Chip Resistor, Body 1.6x0.8mm, IPC High Density)
footprint 14-1210 (Chip Resistor, Body 3.2x2.5mm, IPC High Density)
footprint 12Z-2010 (Chip Resistor, Body 5.0x2.5mm, IPC High Density)
footprint RESC6332 (Chip Resistor, Body 6.3x3.2mm, IPC High Density)
simulation model RESISTOR (Resistor)
signal-integrity model Res
pins: 1, 2

## RC0603FR-07330RL
designator R?  value 330  (hidden comment: RC0603FR-07330RL)
330 Ohms ±1% 0.1W, 1/10W Chip Resistor 0603 (1608 Metric) Thick Film; Pacage Metric: 1608; MF: Yageo or NXP; ChipDip_Link: https://www.chipdip.ru/product0/9000079628; HelpURL: https://www.chipdip.ru/product0/9000079628; Package: R0603; Type: SMD; MP: RC0603FR-07330RL; SnapEDA_Link: https://www.snapeda.com/parts/RC0603FR-07330RL/Yageo/view-part/?ref=search&t=RC0603FR-07330RL
footprint J1-0603 (Chip Resistor, Body 1.6x0.8mm, IPC High Density)
footprint 14-1210 (Chip Resistor, Body 3.2x2.5mm, IPC High Density)
footprint 12Z-2010 (Chip Resistor, Body 5.0x2.5mm, IPC High Density)
footprint RESC6332 (Chip Resistor, Body 6.3x3.2mm, IPC High Density)
simulation model RESISTOR (Resistor)
signal-integrity model Res
pins: 1, 2

## RC1206JR-07150RL
designator R?
150 Ohms Â±5% 0.25W, 1/4W Chip Resistor 1206 _3216 Metric_ Moisture Resistant Thick Film; Value: 150; MP: RC1206JR-07150RL; MF: Yageo; Price: None; Package: 3116 Yageo; SnapEDA_Link: https://www.snapeda.com/parts/RC1206JR-07150RL/Yageo/view-part/106123/?ref=snap; Availability: Unavailable; ChipDip_Link: https://www.chipdip.ru/product0/535355693
footprint RESC3116X65N
pins: 1, 2

## Res2
designator R?  value 10k  (hidden comment: Res2)
Resistor; Published: 8-Jun-2000; LatestRevisionDate: 17-Jul-2002; LatestRevisionNote: Re-released for DXP Platform.; PackageReference: AXIAL-0.4; Publisher: Altium Limited
footprint AXIAL-0.4 (Axial Device, Thru-Hole; 2 Leads; 0.4 in Pin Spacing)
simulation model RESISTOR (Resistor)
signal-integrity model Res
footprint 0603
footprint 0402
pins: 1, 2

## RM3100
designator U?
Availability: Unavailable; Price: None; Value: *; ComponentLink1Description: Datasheet; ComponentLink1URL: https://www.te.com/commerce/DocumentDelivery/DDEController?Action=showdoc&DocId=Data+Sheet%7FMS4525DO%7FB2%7Fpdf%7FEnglish%7FENG_DS_MS4525DO_B2.pdf%7FCAT-BLPS0002; ComponentLink2Description: Supply; ComponentLink2URL: https://www.chipdip.ru/product1/8002062227
footprint RM3100
pins: 1 VCC (power), 2 GND (power), 3 NC (power), 4 DRDY (power), 5 SCLK (power), 6 MISO (power), 7 MOSI (power), 8 SSN (power)

## S4B-XH-A(LF)(SN)
designator P?
XH Series 4 Position 2.5 mm Through Hole Right Angle Press Fit Shrouded Header; MP: S4B-XH-A_LF__SN_; MF: JST Sales; Package: None; SnapEDA_Link: https://www.snapeda.com/parts/S4B-XH-A%28LF%29%28SN%29/JST%20Sales%20America%20Inc./view-part/?ref=snap; Availability: Unavailable; Price: None; Value: *
footprint *JST_S4B-XH-A(LF)(SN)
pins: 1, 2, 3, 4

## S7B-XH-A(LF)(SN)
designator P?
XH Series 7 Position 2.5 mm Through Hole Right Angle Press Fit Shrouded Header; MP: S4B-XH-A_LF__SN_; MF: JST Sales; Package: None; SnapEDA_Link: https://www.snapeda.com/parts/S4B-XH-A%28LF%29%28SN%29/JST%20Sales%20America%20Inc./view-part/?ref=snap; Availability: Unavailable; Price: None; Value: *
footprint *JST_S7B-XH-A(LF)(SN)
pins: 1, 2, 3, 4, 5, 6, 7

## S(B)6B-XH-A(LF)(SN)
designator P?, comment S6B-XH-A(LF)(SN)
XH Series 6 Position 2.5 mm Through Hole Right Angle Press Fit Shrouded Header; MP: S4B-XH-A_LF__SN_; MF: JST Sales; Package: None; SnapEDA_Link: https://www.snapeda.com/parts/S4B-XH-A%28LF%29%28SN%29/JST%20Sales%20America%20Inc./view-part/?ref=snap; Availability: Unavailable; Price: None; Value: *
footprint *JST_S6B-XH-A(LF)(SN)
footprint JST_B6B-XH-A(LF)(SN)
pins: 1, 2, 3, 4, 5, 6

## selector
designator S?  (value not drawn)
footprint SELECTOR
pins: 1 IN1, 2 MID, 3 IN3

## Shunt
designator R?
SMD 7 Вт R001 0,001 Ом Точность 1% SMD 1575; Package: 1575; SnapEDA_Link: https://aliexpress.ru/item/32903300292.html; Price: None; Availability: Unavailable; Value: *; HelpURL: https://static.chipdip.ru/lib/760/DOC000760853.pdf
footprint SHUNT
pins: 1, 2

## SI7465DP-T1-GE3
designator Q?
SI7465DP-T1-GE3 P-Channel 60 V (D-S) MOSFET; Value: *; ChipDip_Link: https://www.chipdip.ru/product1/8000893925; HelpURL: https://www.vishay.com/docs/73113/73113.pdf
footprint PowerTDFN-8
pins: D, G, S

## Side Header 4
designator P?
Header, 4-Pin; LatestRevisionDate: 17-Jul-2002; LatestRevisionNote: Re-released for DXP Platform.; Publisher: Altium Limited
signal-integrity model Connector
footprint HDR1X4 (Connector; Header; 4 Position)
pins: 1, 2, 3, 4

## Side Header 6
designator P?
Header, 4-Pin; LatestRevisionDate: 17-Jul-2002; LatestRevisionNote: Re-released for DXP Platform.; Publisher: Altium Limited
signal-integrity model Connector
footprint HDR Side 6 pin
footprint 6pin 1.5pitch
pins: 1, 2, 3, 4, 5, 6

## Side Header 10
designator P?
Header, 4-Pin; LatestRevisionDate: 17-Jul-2002; LatestRevisionNote: Re-released for DXP Platform.; Publisher: Altium Limited
signal-integrity model Connector
footprint WING X5
pins: 1, 2, 3, 4, 5, 6, 7, 8, 9, 10

## SK56
designator D?  (value not drawn)
Диод Шоттки 5А 60В [SMB / DO-214AA]; MF: Littelfuse Inc.; Type: SMD; MP: SK56; Package: DO-214 Littelfuse; SnapEDA_Link: https://www.snapeda.com/parts/P6SMB62AT3G/Littelfuse%20Inc./view-part/?ref=snap; Value: *; ChipDip_Link: https://www.chipdip.ru/product/sk56
footprint *SMB_P6SMB62AT3G(Primary)
pins: A (power), C (power)

## SM04B-GHS-TB(LF)(SN)-
designator CAN-AP?
Connector Header Surface Mount, Right Angle 4 position 0.049 _1.25mm_; MF: JST Sales; MP: SM04B-GHS-TB(LF)(SN); Package: None; Value: *; SnapEDA_Link: https://www.snapeda.com/parts/SM04B-GHS-TB%28LF%29%28SN%29-/JST%20Sales%20America%20Inc./view-part/2759740/?ref=snap; HelpURL: http://www.farnell.com/datasheets/2082975.pdf; System: Connector; ChipDip_Link: https://www.chipdip.ru/product/sm04b-ghs-tb-lf-sn-gh-1.25mm-header-side-ent
footprint JST_SM04B-GHS-TB(LF)(SN)-
pins: 1, 2, 3, 4, SH1 SHIELD (power), SH2 SHIELD (power)

## SM05B-GHS-TB(LF)(SN)
designator J
Connector Header Surface Mount, Right Angle 5 position 0.049" (1.25mm); MP: SM05B-GHS-TB_LF__SN_; MF: JST Sales; Value: *; Package: None; Price: None; Availability: Unavailable; SnapEDA_Link: https://www.snapeda.com/parts/SM06B-GHS-TB%28LF%29%28SN%29/JST%20Sales%20America%20Inc./view-part/817690/?ref=snap; HelpURL: http://www.farnell.com/datasheets/2082975.pdf; System: Connector; ChipDip_Link: https://www.chipdip.ru/product1/8002005407
footprint JST_SM05B-GHS-TB(LF)(SN)
pins: 1, 2, 3, 4, 5, S1 SHIELD, S2 SHIELD

## SM06B-GHS-TB(LF)(SN)
designator J
Connector Header Surface Mount, Right Angle 6 position 0.049" (1.25mm); MP: SM06B-GHS-TB_LF__SN_; MF: JST Sales; Value: *; Package: None; Price: None; Availability: Unavailable; SnapEDA_Link: https://www.snapeda.com/parts/SM06B-GHS-TB%28LF%29%28SN%29/JST%20Sales%20America%20Inc./view-part/817690/?ref=snap; HelpURL: http://www.farnell.com/datasheets/2082975.pdf; System: Connector; ChipDip_Link: https://www.chipdip.ru/product1/8002005407
footprint JST_SM06B-GHS-TB(LF)(SN)
pins: 1, 2, 3, 4, 5, 6, S1 SHIELD, S2 SHIELD